# Altium schematic symbol library ESP-WROOM-02D.SchLib: 1 symbol
Pins are listed as number, name and electrical type; pins without a type are passive.

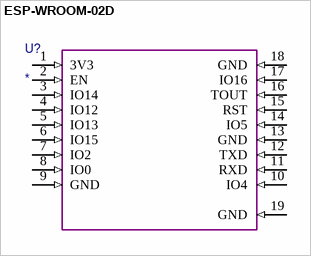
[diagram p0: symbol ESP-WROOM-02D]

## ESP-WROOM-02D
designator U?
pins: 1 3V3 (in), 2 EN (in), 3 IO14 (in), 4 IO12 (in), 5 IO13 (in), 6 IO15 (in), 7 IO2 (in), 8 IO0 (in), 9 GND (in), 10 IO4 (in), 11 RXD (in), 12 TXD (in), 13 GND (in), 14 IO5 (in), 15 RST (in), 16 TOUT (in), 17 IO16 (in), 18 GND (in), 19 GND (in)